# EAGLE library part LTC1754-5 (library pmodio)
Linear Technology 5v Charge Pump
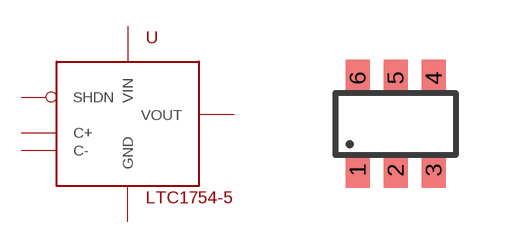
[diagram p2: symbol with the pads of SOT23-6; footprint SOT23-6]

Designator prefix -

## LTC1754-5  [SOT23-6]
1  VOUT
2  GND
3  SHDN
4  C-
5  VIN
6  C+

## Footprint SOT23-6 (pad centres in mm)
Small Outline Transistor 6 lead
smd 0.6 x 0.9: 1 -0.95,-1.15; 2 0,-1.15; 3 0.95,-1.15; 4 0.95,1.15; 5 0,1.15; 6 -0.95,1.15